# Altium schematic symbol library FOC.SchLib: 40 symbols
Pins are listed as number, name and electrical type; pins without a type are passive.

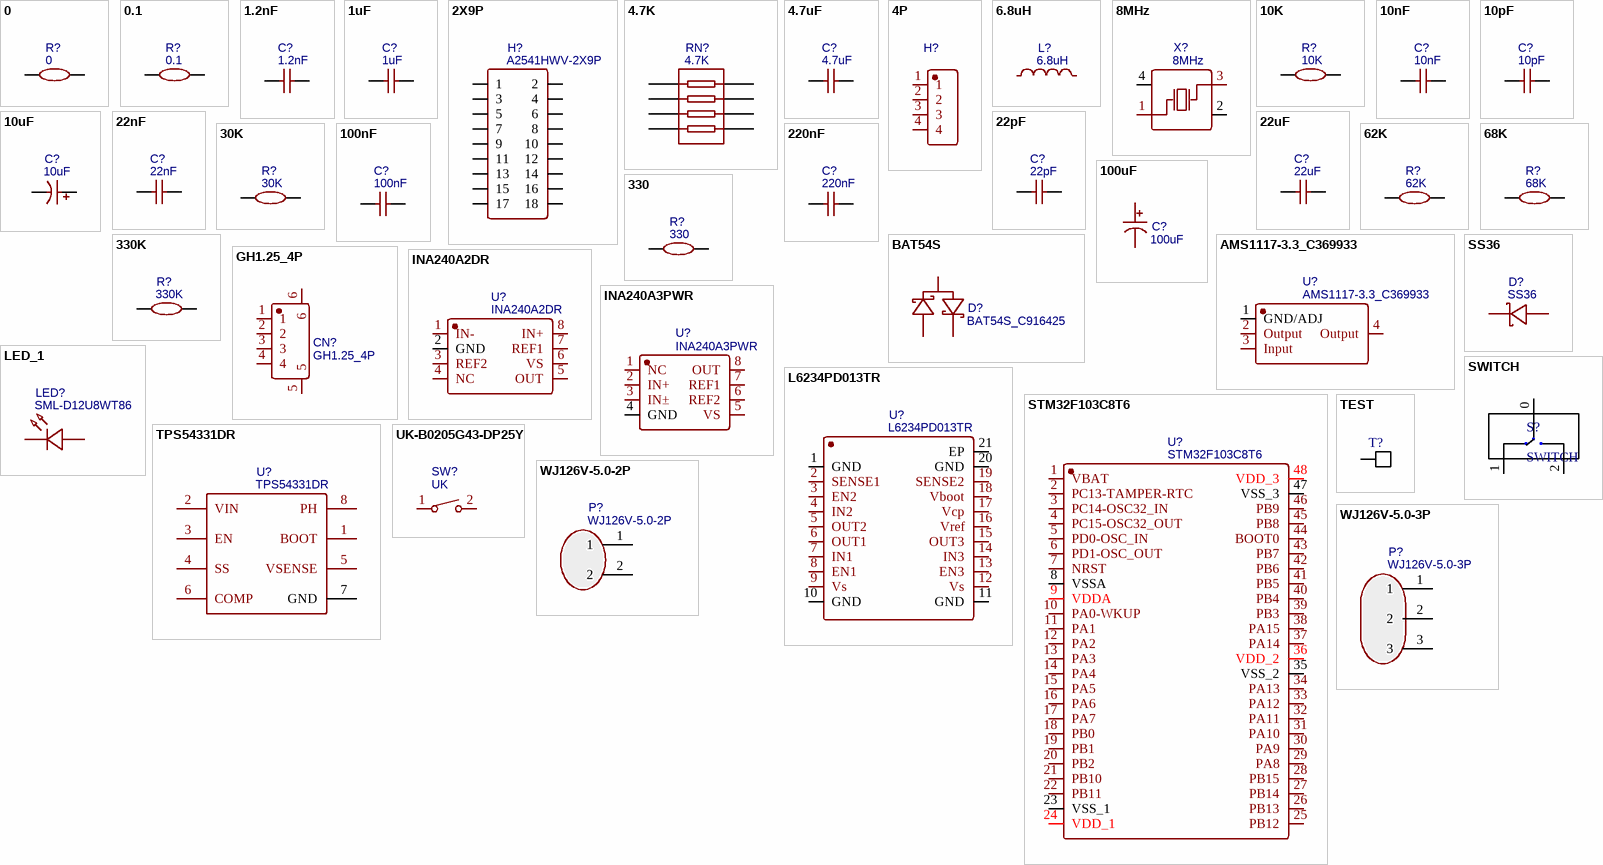
[diagram p0: symbols 0 to WJ126V-5.0-3P]

## 0
designator R?
0欧电阻; BOM_Manufacturer: UniOhm; BOM_Manufacturer Part: 0805W8F1002T5E; nameAlias: Resistance (Ohms); BOM_Supplier: LCSC; BOM_Supplier Part: C17414; BOM_JLCPCB Part Class: Basic Part; spicePre: R; spiceSymbolName: 0805W8F1002T5E
footprint R0603
pins: 1, 2

## 0.1
designator R?
BOM_Manufacturer: UniOhm; BOM_Manufacturer Part: 0805W8F1002T5E; nameAlias: Resistance (Ohms); BOM_Supplier: LCSC; BOM_Supplier Part: C17414; BOM_JLCPCB Part Class: Basic Part; spicePre: R; spiceSymbolName: 0805W8F1002T5E
footprint R2010
pins: 1, 2

## 1.2nF
designator C?
BOM_Manufacturer Part: CC0805KRX7R9BB104; BOM_Manufacturer: YAGEO; nameAlias: Capacitance; BOM_Supplier: LCSC; BOM_Supplier Part: C49678; BOM_JLCPCB Part Class: Basic Part; spicePre: C; spiceSymbolName: CC0805KRX7R9BB104
footprint C0603
pins: 1, 2

## 1uF
designator C?
BOM_Manufacturer Part: CC0805KRX7R9BB104; BOM_Manufacturer: YAGEO; nameAlias: Capacitance; BOM_Supplier: LCSC; BOM_Supplier Part: C49678; BOM_JLCPCB Part Class: Basic Part; spicePre: C; spiceSymbolName: CC0805KRX7R9BB104
footprint C0603
pins: 1, 2

## 2X9P
designator H?, comment A2541HWV-2X9P
2*9pin排针; BOM_Manufacturer: Changjiang Connectors; Contributor: LCSC; BOM_Supplier: LCSC; BOM_Supplier Part: C239349; BOM_Manufacturer Part: A2541HWV-2x9P; link: https://item.szlcsc.com/238453.html?ref=editor&logined=true; BOM_JLCPCB Part Class: Extended Part; spicePre: H; spiceSymbolName: A2541HWV-2X9P
footprint HDR-TH_18P-P2.54-V-F-R2-C9-S2.54-1
pins: 1, 2, 3, 4, 5, 6, 7, 8, 9, 10, 11, 12, 13, 14, 15, 16, 17, 18

## 4.7K
designator RN?
排阻; BOM_Manufacturer: UniOhm; BOM_Manufacturer Part: 4D03WGF4701T5E; nameAlias: Resistance (Ohms); BOM_Supplier: LCSC; BOM_Supplier Part: C66697; BOM_JLCPCB Part Class: Extended Part; spicePre: R; spiceSymbolName: 4D03WGF4701T5E
footprint RES-ARRAY-SMD_0603-8P-L3.2-W1.6-BL
pins: 1, 2, 3, 4, 5, 6, 7, 8

## 4.7uF
designator C?
BOM_Manufacturer Part: CC0805KRX7R9BB104; BOM_Manufacturer: YAGEO; nameAlias: Capacitance; BOM_Supplier: LCSC; BOM_Supplier Part: C49678; BOM_JLCPCB Part Class: Basic Part; spicePre: C; spiceSymbolName: CC0805KRX7R9BB104
footprint C0603
pins: 1, 2

## 4P
designator H?, comment PM254V-11-04-H85  (value not drawn)
4pin排针; BOM_Manufacturer: XFCN; Contributor: LCSC; BOM_Supplier: LCSC; BOM_Supplier Part: C541851; BOM_Manufacturer Part: PM254V-11-04-H85; BOM_JLCPCB Part Class: Extended Part; spicePre: H; spiceSymbolName: PM254V-11-04-H85
footprint HDR-TH_4P-P2.54-V-F
pins: 1, 2, 3, 4

## 6.8uH
designator L?
BOM_Manufacturer: Sunlord; BOM_Manufacturer Part: SWPA5040S6R8M; nameAlias: Inductance; BOM_Supplier: LCSC; BOM_Supplier Part: C36411; BOM_JLCPCB Part Class: Extended Part; spicePre: L; spiceSymbolName: SWPA5040S6R8M
footprint IND-SMD_L5.0-W5.0_SWPA5040S
pins: 1, 2

## 8MHz
designator X?
BOM_Manufacturer: TXC Corp; BOM_Manufacturer Part: 7B08070003; nameAlias: Frequency; Contributor: LCSC; BOM_Supplier: LCSC; BOM_Supplier Part: C337573; spicePre: X; spiceSymbolName: 7B08070003
footprint CRYSTAL-SMD_4P-L5.0-W3.2-BL
pins: 1 OSC1, 2 GND, 3 OSC2, 4 GND

## 10K
designator R?
BOM_Manufacturer: UniOhm; BOM_Manufacturer Part: 0805W8F1002T5E; nameAlias: Resistance (Ohms); BOM_Supplier: LCSC; BOM_Supplier Part: C17414; BOM_JLCPCB Part Class: Basic Part; spicePre: R; spiceSymbolName: 0805W8F1002T5E
footprint R0603
pins: 1, 2

## 10nF
designator C?
BOM_Manufacturer Part: CC0805KRX7R9BB104; BOM_Manufacturer: YAGEO; nameAlias: Capacitance; BOM_Supplier: LCSC; BOM_Supplier Part: C49678; BOM_JLCPCB Part Class: Basic Part; spicePre: C; spiceSymbolName: CC0805KRX7R9BB104
footprint C0603
pins: 1, 2

## 10pF
designator C?
BOM_Manufacturer Part: CC0805KRX7R9BB104; BOM_Manufacturer: YAGEO; nameAlias: Capacitance; BOM_Supplier: LCSC; BOM_Supplier Part: C49678; BOM_JLCPCB Part Class: Basic Part; spicePre: C; spiceSymbolName: CC0805KRX7R9BB104
footprint C0603
pins: 1, 2

## 10uF
designator C?
tan; BOM_Manufacturer: Xiangyee; BOM_Manufacturer Part: CA45-A016K106T; nameAlias: Capacitance; Contributor: LCSC; BOM_Supplier: LCSC; BOM_Supplier Part: C119051; BOM_JLCPCB Part Class: Extended Part; spicePre: C; spiceSymbolName: CA45-A016K106T
footprint CAP-SMD_L3.2-W1.6-RD
pins: 1, 2

## 22nF
designator C?
BOM_Manufacturer Part: CC0805KRX7R9BB104; BOM_Manufacturer: YAGEO; nameAlias: Capacitance; BOM_Supplier: LCSC; BOM_Supplier Part: C49678; BOM_JLCPCB Part Class: Basic Part; spicePre: C; spiceSymbolName: CC0805KRX7R9BB104
footprint C0603
pins: 1, 2

## 22pF
designator C?
BOM_Manufacturer Part: CC0805KRX7R9BB104; BOM_Manufacturer: YAGEO; nameAlias: Capacitance; BOM_Supplier: LCSC; BOM_Supplier Part: C49678; BOM_JLCPCB Part Class: Basic Part; spicePre: C; spiceSymbolName: CC0805KRX7R9BB104
footprint C0603
pins: 1, 2

## 22uF
designator C?
BOM_Manufacturer Part: CC0805KRX7R9BB104; BOM_Manufacturer: YAGEO; nameAlias: Capacitance; BOM_Supplier: LCSC; BOM_Supplier Part: C49678; BOM_JLCPCB Part Class: Basic Part; spicePre: C; spiceSymbolName: CC0805KRX7R9BB104
footprint C0603
pins: 1, 2

## 30K
designator R?
BOM_Manufacturer: UniOhm; BOM_Manufacturer Part: 0805W8F1002T5E; nameAlias: Resistance (Ohms); BOM_Supplier: LCSC; BOM_Supplier Part: C17414; BOM_JLCPCB Part Class: Basic Part; spicePre: R; spiceSymbolName: 0805W8F1002T5E
footprint R0603
pins: 1, 2

## 62K
designator R?
BOM_Manufacturer: UniOhm; BOM_Manufacturer Part: 0805W8F1002T5E; nameAlias: Resistance (Ohms); BOM_Supplier: LCSC; BOM_Supplier Part: C17414; BOM_JLCPCB Part Class: Basic Part; spicePre: R; spiceSymbolName: 0805W8F1002T5E
footprint R0603
pins: 1, 2

## 68K
designator R?
BOM_Manufacturer: UniOhm; BOM_Manufacturer Part: 0805W8F1002T5E; nameAlias: Resistance (Ohms); BOM_Supplier: LCSC; BOM_Supplier Part: C17414; BOM_JLCPCB Part Class: Basic Part; spicePre: R; spiceSymbolName: 0805W8F1002T5E
footprint R0603
pins: 1, 2

## 100nF
designator C?
BOM_Manufacturer Part: CC0805KRX7R9BB104; BOM_Manufacturer: YAGEO; nameAlias: Capacitance; BOM_Supplier: LCSC; BOM_Supplier Part: C49678; BOM_JLCPCB Part Class: Basic Part; spicePre: C; spiceSymbolName: CC0805KRX7R9BB104
footprint C0603
pins: 1, 2

## 100uF
designator C?
电解电容; BOM_Manufacturer: ROQANG; BOM_Manufacturer Part: RVE1V101M0607; nameAlias: Capacitance; BOM_Supplier: LCSC; BOM_Supplier Part: C99837; BOM_JLCPCB Part Class: Extended Part; spicePre: C; spiceSymbolName: RVE1V101M0607-C99837
footprint CAP-SMD_BD6.3-L6.6-W6.6-RD
pins: 1, 2

## 220nF
designator C?
BOM_Manufacturer Part: CC0805KRX7R9BB104; BOM_Manufacturer: YAGEO; nameAlias: Capacitance; BOM_Supplier: LCSC; BOM_Supplier Part: C49678; BOM_JLCPCB Part Class: Basic Part; spicePre: C; spiceSymbolName: CC0805KRX7R9BB104
footprint C0603
pins: 1, 2

## 330
designator R?
BOM_Manufacturer: UniOhm; BOM_Manufacturer Part: 0805W8F1002T5E; nameAlias: Resistance (Ohms); BOM_Supplier: LCSC; BOM_Supplier Part: C17414; BOM_JLCPCB Part Class: Basic Part; spicePre: R; spiceSymbolName: 0805W8F1002T5E
footprint C0603
pins: 1, 2

## 330K
designator R?
R0603; BOM_Manufacturer: UniOhm; BOM_Manufacturer Part: 0603WAF3303T5E; nameAlias: Resistance (Ohms); BOM_Supplier: LCSC; BOM_Supplier Part: C23137; BOM_JLCPCB Part Class: Basic Part; spicePre: R; spiceSymbolName: 0603WAF3303T5E
footprint R0603
pins: 1, 2

## AMS1117-3.3_C369933
designator U?
BOM_Manufacturer: KEXIN; Contributor: LCSC; BOM_Supplier: LCSC; BOM_Supplier Part: C369933; BOM_Manufacturer Part: AMS1117-3.3; BOM_JLCPCB Part Class: Extended Part; spicePre: U; spiceSymbolName: AMS1117-3.3_C369933
footprint SOT-223-4_L6.5-W3.5-P2.30-LS7.0-BR
pins: 1 GND/ADJ, 2 Output, 3 Input, 4 Output

## BAT54S
designator D?, comment BAT54S_C916425
肖特基; BOM_Manufacturer: JSMSEMI; BOM_Manufacturer Part: BAT54S; Contributor: LCSC; BOM_Supplier: LCSC; BOM_Supplier Part: C916425; BOM_JLCPCB Part Class: Extended Part; spicePre: D; spiceSymbolName: BAT54S_C916425
footprint SOT-23-3_L2.9-W1.3-P1.90-LS2.4-BR
pins: 1 A, 2 K, 3

## GH1.25_4P
designator CN?
BOM_Manufacturer: HRS(广濑); BOM_Manufacturer Part: DF13-4P-1.25H(21); Contributor: LCSC; BOM_Supplier: LCSC; BOM_Supplier Part: C597872; spicePre: C; spiceSymbolName: DF13-4P-1.25H(21)
footprint CONN-TH_4P-P1.25_HRS_DF13-4P-1.25H-21
pins: 1, 2, 3, 4, 5, 6

## INA240A2DR
designator U?
电流检测计; BOM_Manufacturer: TI(德州仪器); Contributor: LCSC; BOM_Supplier: LCSC; BOM_Supplier Part: C2060768; BOM_Manufacturer Part: INA240A2DR; BOM_JLCPCB Part Class: Extended Part; spicePre: U; spiceSymbolName: INA240A2DR
footprint SOIC-8_L4.9-W3.9-P1.27-LS6.0-BL
pins: 1 IN-, 2 GND, 3 REF2, 4 NC, 5 OUT, 6 VS, 7 REF1, 8 IN+

## INA240A3PWR
designator U?
BOM_Manufacturer: TI(德州仪器); Contributor: LCSC; BOM_Supplier: LCSC; BOM_Supplier Part: C544538; BOM_Manufacturer Part: INA240A3PWR; BOM_JLCPCB Part Class: Extended Part; spicePre: U; spiceSymbolName: INA240A3PWR
footprint TSSOP-8_L4.4-W3.0-P0.65-LS6.4-BL-2
pins: 1 NC, 2 IN+, 3 IN±, 4 GND, 5 VS, 6 REF2, 7 REF1, 8 OUT

## L6234PD013TR
designator U?
三路H桥; BOM_Manufacturer: STMicroelectronics; BOM_Supplier: LCSC; BOM_Manufacturer Part: L6234PD013TR; BOM_Supplier Part: C77581; BOM_JLCPCB Part Class: Extended Part; spicePre: U; spiceSymbolName: L6234PD013TR
footprint POWERSO20_L15.9-W11.0-P1.27-LS14.2-BL-EP
pins: 1 GND, 2 SENSE1, 3 EN2, 4 IN2, 5 OUT2, 6 OUT1, 7 IN1, 8 EN1, 9 Vs, 10 GND, 11 GND, 12 Vs, 13 EN3, 14 IN3, 15 OUT3, 16 Vref, 17 Vcp, 18 Vboot, 19 SENSE2, 20 GND, 21 EP

## LED_1
designator LED?, comment SML-D12U8WT86
0603; BOM_Manufacturer: ROHM(罗姆); Contributor: LCSC; BOM_Supplier: LCSC; BOM_Supplier Part: C510027; BOM_Manufacturer Part: SML-D12U8WT86; BOM_JLCPCB Part Class: Extended Part; spicePre: L; spiceSymbolName: SML-D12U8WT86
footprint LED0603-RD
pins: 1 K, 2 A

## SS36
designator D?
BOM_Manufacturer: MDD; BOM_Supplier: LCSC; BOM_Manufacturer Part: SS36; BOM_Supplier Part: C16015; BOM_JLCPCB Part Class: Extended Part; spicePre: D; spiceSymbolName: SS36
footprint SMA_L4.3-W2.6-LS5.2-RD
pins: 1 K, 2 A

## STM32F103C8T6
designator U?
BOM_Manufacturer: STMicroelectronics; timeStamp: 1455028086; BOM_Supplier: LCSC; BOM_Manufacturer Part: STM32F103C8T6; BOM_Supplier Part: C8734; BOM_JLCPCB Part Class: Basic Part; spicePre: U; spiceSymbolName: STM32F103C8T6
footprint LQFP-48_L7.0-W7.0-P0.50-LS9.0-BL
pins: 1 VBAT, 2 PC13-TAMPER-RTC, 3 PC14-OSC32_IN, 4 PC15-OSC32_OUT, 5 PD0-OSC_IN, 6 PD1-OSC_OUT, 7 NRST, 8 VSSA, 9 VDDA, 10 PA0-WKUP, 11 PA1, 12 PA2, 13 PA3, 14 PA4, 15 PA5, 16 PA6, 17 PA7, 18 PB0, 19 PB1, 20 PB2, 21 PB10, 22 PB11, 23 VSS_1, 24 VDD_1, 25 PB12, 26 PB13, 27 PB14, 28 PB15, 29 PA8, 30 PA9, 31 PA10, 32 PA11, 33 PA12, 34 PA13, 35 VSS_2, 36 VDD_2, 37 PA14, 38 PA15, 39 PB3, 40 PB4, 41 PB5, 42 PB6, 43 PB7, 44 BOOT0, 45 PB8, 46 PB9, 47 VSS_3, 48 VDD_3

## SWITCH
designator S?
footprint switch
pins: 0, 1, 2

## TEST
designator T?  (value not drawn)
footprint test
pins: 0

## TPS54331DR
designator U?
电源芯片; BOM_Manufacturer: TI; BOM_Supplier: LCSC; BOM_Manufacturer Part: TPS54331DR; BOM_Supplier Part: C9865; BOM_JLCPCB Part Class: Basic Part; spicePre: U; spiceSymbolName: TPS54331DR
footprint SOIC-8_L5.0-W4.0-P1.27-LS6.0-BL
pins: 1 BOOT, 2 VIN, 3 EN, 4 SS, 5 VSENSE, 6 COMP, 7 GND, 8 PH

## UK-B0205G43-DP25Y
designator SW?, comment UK
BOM_Manufacturer: USAKRO; BOM_Manufacturer Part: UK-B0205G43-DP25Y; Contributor: LCSC; BOM_Supplier: LCSC; BOM_Supplier Part: C493223; BOM_JLCPCB Part Class: Extended Part; spicePre: S; spiceSymbolName: UK-B0205G43-DP25Y
footprint SW-TH_L6.0-W3.5-P6.50
pins: 1, 2

## WJ126V-5.0-2P
designator P?
BOM_Manufacturer: ReliaPro; BOM_Supplier: LCSC; BOM_Manufacturer Part: WJ126V-5.0-2P; BOM_Supplier Part: C8404; BOM_JLCPCB Part Class: Extended Part; spicePre: P; spiceSymbolName: WJ126V-5.0-2P
footprint CONN-TH_WJ126V-5.0-2P
pins: 1, 2

## WJ126V-5.0-3P
designator P?
BOM_Manufacturer: ReliaPro; BOM_Supplier: LCSC; BOM_Manufacturer Part: WJ126V-5.0-3P; BOM_Supplier Part: C8401; BOM_JLCPCB Part Class: Extended Part; spicePre: P; spiceSymbolName: WJ126V-5.0-3P
footprint CONN-TH_3P-P5.00_WJ126V-5.0-3P
pins: 1, 2, 3